# Altium footprint library RESC_2512_M6332.PcbLib: 1 footprints
Each footprint in its own frame and in the unit in brackets; x right, y up, seen from the top. Pads: shape width x height; smd on the part's side, far side on the other; paste and mask are expansions set on the pad; w line width, h text height; cw(c..) or ccw(c..) is an arc to the next point about the centre after c.
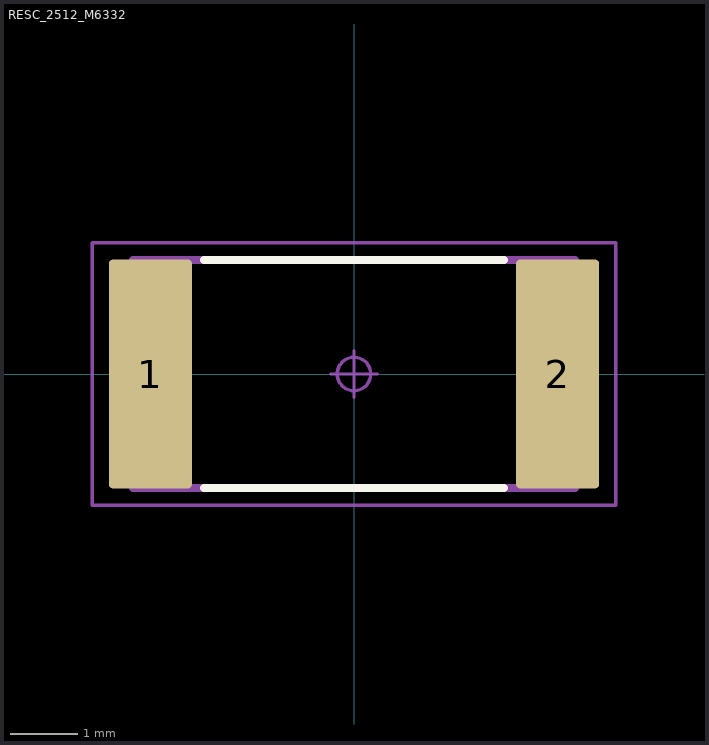
[diagram p0: the footprint, top view; thin cyan lines are the x and y axes]

## RESC_2512_M6332 [mm] "Resistor, Chip; 6.40 mm L X 3.20 mm W X 0.70 mm H body"
pads (2):
  rrect10% 1.24x3.42 smd: 1(-3.04,0) 2(3.04,0)
Top Overlay:
  lines w0.12: -2.24,-1.7 2.24,-1.7 ; -2.24,1.7 2.24,1.7
Mechanical 11:
  lines w0.12: -3.3,-1.7 3.3,-1.7 3.3,1.7 -3.3,1.7 -3.3,-1.7
  text ".Designator" at -3.648,-0.446 h2
Mechanical 15:
  circle w0.05: c0,0 r0.25
  lines w0.05: -0.35,0 0.35,0 ; 0,-0.35 0,0.35 ; -3.91,-1.96 3.91,-1.96 3.91,1.96 -3.91,1.96 -3.91,-1.96
3D body "RESC_2512_M6332.STEP": height 0.7, standoff 0, extent -3.3,-1.7 3.3,1.7